# Altium footprint library Connector Footprints.PcbLib: 89 footprints (part 4 of 6)
Each footprint in its own frame and in the unit in brackets; x right, y up, seen from the top. Pads: shape width x height; smd on the part's side, far side on the other; paste and mask are expansions set on the pad; w line width, h text height; cw(c..) or ccw(c..) is an arc to the next point about the centre after c.
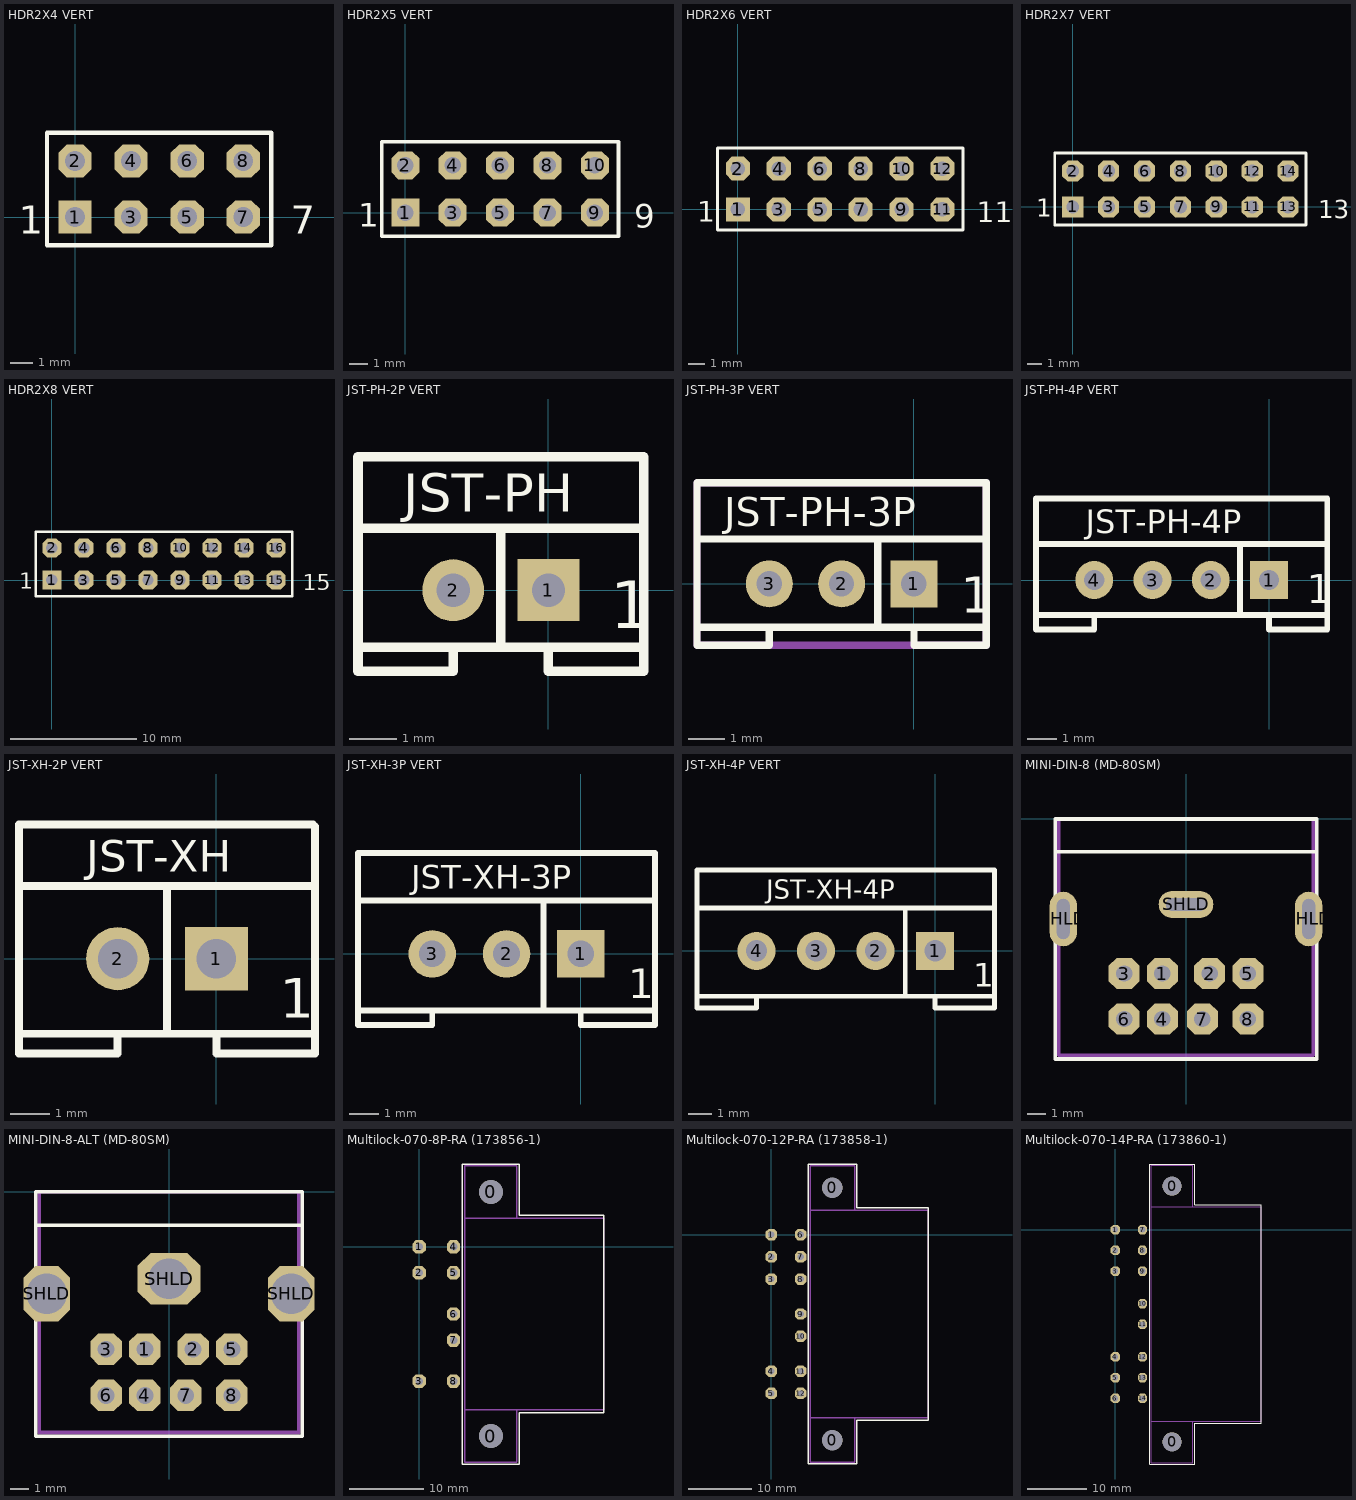
[diagram p3: the footprints below, top view; thin cyan lines are the x and y axes]

## HDR2X4 VERT [mm] "Connector; Header; 2x4 Position, Vertical Mount"
pads (8):
  rect 1.5x1.5 hole 0.9: 1(0,0)
  oct 1.5x1.5 hole 0.9: 2(0,2.54) 3(2.54,0) 4(2.54,2.54) 5(5.08,0) 6(5.08,2.54) 7(7.62,0) 8(7.62,2.54)
Top Overlay:
  lines w0.2: -1.27,-1.27 8.89,-1.27 8.89,3.81 -1.27,3.81 -1.27,-1.27
  text "7" at 9.779,-0.762 h1.27
  text "1" at -2.54,-0.762 h1.27
3D body "61300821121.stp": height 8.77, standoff -2.77, extent -1.255,-1.245 8.905,3.835

## HDR2X5 VERT [mm] "Connector; Header; 2x5 Position, Vertical Mount"
pads (10):
  rect 1.5x1.5 hole 0.9: 1(0,0)
  oct 1.5x1.5 hole 0.9: 2(0,2.54) 3(2.54,0) 4(2.54,2.54) 5(5.08,0) 6(5.08,2.54) 7(7.62,0) 8(7.62,2.54) 9(10.16,0) 10(10.16,2.54)
Top Overlay:
  lines w0.2: -1.27,-1.27 -1.27,3.81 11.43,3.81 11.43,-1.27 -1.27,-1.27
  text "1" at -2.54,-0.762 h1.27
  text "9" at 12.28,-0.8 h1.27
3D body "61301021121.stp": height 8.77, standoff -2.77, extent -1.27,-1.27 11.43,3.81

## HDR2X6 VERT [mm] "Connector; Header; 2x6 Position, Vertical Mount"
pads (12):
  rect 1.5x1.5 hole 0.9: 1(0,0)
  oct 1.5x1.5 hole 0.9: 2(0,2.54) 3(2.54,0) 4(2.54,2.54) 5(5.08,0) 6(5.08,2.54) 7(7.62,0) 8(7.62,2.54) 9(10.16,0) 10(10.16,2.54) 11(12.7,0) 12(12.7,2.54)
Top Overlay:
  lines w0.2: -1.27,-1.27 13.97,-1.27 13.97,3.81 -1.27,3.81 -1.27,-1.27
  text "1" at -2.54,-0.762 h1.27
  text "11" at 14.82,-0.8 h1.27
3D body "61301221121.stp": height 8.77, standoff -2.77, extent -1.265,-1.254 13.975,3.826

## HDR2X7 VERT [mm] "Connector; Header; 2x7 Position, Vertical Mount"
pads (14):
  rect 1.5x1.5 hole 0.9: 1(0,0)
  oct 1.5x1.5 hole 0.9: 2(0,2.54) 3(2.54,0) 4(2.54,2.54) 5(5.08,0) 6(5.08,2.54) 7(7.62,0) 8(7.62,2.54) 9(10.16,0) 10(10.16,2.54) 11(12.7,0) 12(12.7,2.54) 13(15.24,0) 14(15.24,2.54)
Top Overlay:
  lines w0.2: -1.27,-1.27 16.51,-1.27 16.51,3.81 -1.27,3.81 -1.27,-1.27
  text "1" at -2.6,-0.7 h1.27
  text "13" at 17.36,-0.8 h1.27
3D body "61301421121.stp": height 8.77, standoff -2.77, extent -1.27,-1.27 16.51,3.81

## HDR2X8 VERT [mm] "Connector; Header; 2x8 Position, Vertical Mount"
pads (16):
  rect 1.5x1.5 hole 0.9: 1(0,0)
  oct 1.5x1.5 hole 0.9: 2(0,2.54) 3(2.54,0) 4(2.54,2.54) 5(5.08,0) 6(5.08,2.54) 7(7.62,0) 8(7.62,2.54) 9(10.16,0) 10(10.16,2.54) 11(12.7,0) 12(12.7,2.54) 13(15.24,0) 14(15.24,2.54) 15(17.78,0) 16(17.78,2.54)
Top Overlay:
  lines w0.2: -1.27,-1.27 -1.27,3.81 19.05,3.81 19.05,-1.27 -1.27,-1.27
  text "1" at -2.6,-0.7 h1.27
  text "15" at 19.9,-0.8 h1.27
3D body "61301621121.stp": height 8.67, standoff -2.87, extent -1.29,-1.261 19.03,3.819

## JST-PH-2P VERT [mm] "JST-PH Header; 2mm Pitch, 2 Position, Vertical Mount"
height 8
pads (2):
  rect 1.3x1.3 hole 0.7: 1(0,0)
  round 1.3 hole 0.7: 2(-2,0)
Top Overlay:
  lines w0.2: -4,-1.2 2,-1.2 ; -4,1.3 2,1.3 ; -2,-1.2 -2,-1.7 -4,-1.7 -4,2.8 2,2.8 2,-1.7 0,-1.7 0,-1.2 ; -1,-1.2 -1,1.3
  text "1" at 1.3,-0.8 h1
  text "JST-PH" at -3.05,1.65 h0.8
3D body "User Library-JST B2B-PH.step": height 6, standoff -1.91, extent -4,-1.7 2,2.8

## JST-PH-3P VERT [mm] "JST-PH Header; 2mm Pitch, 3 Position, Vertical Mount"
height 8
pads (3):
  rect 1.3x1.3 hole 0.7: 1(0,0)
  round 1.3 hole 0.7: 2(-2,0) 3(-4,0)
Top Overlay:
  lines w0.2: -6,-1.2 -4,-1.2 ; -6,1.24 2,1.24 ; -1,-1.2 -1,1.24 ; 0,-1.2 0,-1.7 2,-1.7 2,2.8 -6,2.8 -6,-1.7 -4,-1.7 -4,-1.2 ; 2,-1.2 -4,-1.2
  text "1" at 1.3,-0.8 h1
  text "JST-PH-3P" at -5.25,1.6 h0.8
Mechanical 13:
  lines w0.2: -6,-1.7 2,-1.7 2,2.8 -6,2.8 -6,-1.7
3D body "User Library-JST B3B-PH.step": height 6, standoff -1.91, extent -6,-1.7 2,2.8

## JST-PH-4P VERT [mm] "JST-PH Header; 2mm Pitch, 4 Position, Vertical Mount"
height 8
pads (4):
  rect 1.3x1.3 hole 0.7: 1(0,0)
  round 1.3 hole 0.7: 2(-2,0) 3(-4,0) 4(-6,0)
Top Overlay:
  lines w0.2: -8,-1.2 2,-1.2 ; -7.9,1.24 2,1.24 ; -6,-1.2 -6,-1.7 -8,-1.7 -8,2.8 2,2.8 2,-1.7 0,-1.7 0,-1.2 ; -1,-1.2 -1,1.24
  text "JST-PH-4P" at -6.3,1.6 h0.8
  text "1" at 1.3,-0.8 h1
3D body "User Library-JST B4B-PH.step": height 6, standoff -1.91, extent -8,-1.7 2,2.8

## JST-XH-2P VERT [mm] "JST-XH Header; 2.5mm Pitch, 2 Position, Vertical Mount"
height 9.8
pads (2):
  rect 1.6x1.6 hole 1: 1(0,0)
  round 1.6 hole 1: 2(-2.5,0)
Top Overlay:
  lines w0.2: -5,1.84 2.4,1.84 ; -5,3.4 -5,-2.4 -2.5,-2.4 -2.5,-1.9 ; -4.95,3.4 2.45,3.4 ; -4.9,-1.9 2.5,-1.9 ; -1.25,-1.825 -1.25,1.8 ; 0,-1.9 0,-2.4 2.5,-2.4 2.5,3.35
  text "1" at 1.6,-1.5 h1
  text "JST-XH" at -3.3,2.2 h0.8
3D body "User Library-JST B2B-XH.step": height 7, standoff -3.3, extent -5,-2.35 2.5,3.35

## JST-XH-3P VERT [mm] "JST-XH Header; 2.5mm Pitch, 3 Position, Vertical Mount"
height 9.8
pads (3):
  rect 1.6x1.6 hole 0.9: 1(0,0)
  round 1.6 hole 0.9: 2(-2.5,0) 3(-5,0)
Top Overlay:
  lines w0.2: -7.5,-1.9 2.45,-1.9 ; -7.4,1.8 2.5,1.8 ; -5,-1.9 -5,-2.4 -7.5,-2.4 -7.5,3.4 2.5,3.4 2.5,-2.4 0,-2.4 0,-1.9 ; -1.25,-1.825 -1.25,1.8
  text "JST-XH-3P" at -5.7,2.2 h0.8
  text "1" at 1.6,-1.5 h1
3D body "User Library-JST B3B-XH.step": height 7, standoff -3.3, extent -7.5,-2.35 2.5,3.35

## JST-XH-4P VERT [mm] "JST-XH Header; 2.5mm Pitch, 4 Position, Vertical Mount"
height 9.8
pads (4):
  rect 1.6x1.6 hole 0.9: 1(0,0)
  round 1.6 hole 0.9: 2(-2.5,0) 3(-5,0) 4(-7.5,0)
Top Overlay:
  lines w0.2: -10,-1.9 2.45,-1.9 ; -10,1.8 2.4,1.8 ; -7.5,-1.9 -7.5,-2.4 -10,-2.4 -10,3.4 2.5,3.4 2.5,-2.4 0,-2.4 0,-1.9 ; -1.25,-1.825 -1.25,1.8
  text "JST-XH-4P" at -7.1,2.2 h0.8
  text "1" at 1.6,-1.5 h1
3D body "User Library-JST B4B-XH.step": height 7, standoff -3.3, extent -10,-2.35 2.5,3.35

## MINI-DIN-8 (MD-80SM) [mm] "CUI Inc, Mini Din Connector, Through Hole, Right Angle"
height 12.8
pads (11):
  oct 1.7x1.7 hole 0.9: 1(-1.3,-8.5) 2(1.3,-8.5) 3(-3.4,-8.5) 4(-1.3,-11) 5(3.4,-8.5) 6(-3.4,-11) 7(0.9,-11) 8(3.4,-11)
  oval 1.5x3 hole 0.7 slot 2.2 at 90 deg: SHLD(-6.75,-5.5) SHLD(6.75,-5.5)
  oval 3x1.5 hole 0.7 slot 2.2 at 0 deg: SHLD(0,-4.7)
Top Overlay:
  lines w0.2: -7.2,-1.8 7.2,-1.8 ; -7.2,-13.2 -7.2,0 7.2,0 7.2,-13.2 -7.2,-13.2
Mechanical 13:
  lines w0.2: -7,-13 -7,0 7,0 7,-13 -7,-13
3D body "md-80sm IQI Connector.stp": height 12.8, standoff -3.5, extent -7.17,-13 7.17,0

## MINI-DIN-8-ALT (MD-80SM) [mm] "CUI Inc, Mini Din Connector, Through Hole, Right Angle"
height 12.8
pads (11):
  oct 1.7x1.7 hole 0.9: 1(-1.3,-8.5) 2(1.3,-8.5) 3(-3.4,-8.5) 4(-1.3,-11) 5(3.4,-8.5) 6(-3.4,-11) 7(0.9,-11) 8(3.4,-11)
  oct 2.5x3 hole 2.2: SHLD(-6.6,-5.5) SHLD(6.6,-5.5)
  oct 3.4x2.8 hole 2.2: SHLD(0,-4.7)
Top Overlay:
  lines w0.2: -7.2,-1.8 7.2,-1.8 ; -7.2,-13.2 -7.2,0 7.2,0 7.2,-13.2 -7.2,-13.2
Mechanical 13:
  lines w0.2: -7,-13 -7,0 7,0 7,-13 -7,-13
3D body "md-80sm IQI Connector.stp": height 12.8, standoff -3.5, extent -7.17,-13 7.17,0

## Multilock-070-8P-RA (173856-1) [mm] "Multilock 070, 8 Pin, 3.5mm Pitch, Right Angle Mount"
height 15.8
pads (10):
  round 3.2 hole 3.2 unplated paste+0: 0(9.6,-25.35) 0(9.6,7.35)
  oct 1.8x1.8 hole 1: 1(0,0) 2(0,-3.5) 3(0,-18) 4(4.6,0) 5(4.6,-3.5) 6(4.6,-9) 7(4.6,-12.5) 8(4.6,-18)
Top Overlay:
  lines w0.2: 5.8,-29.1 5.8,-21.85 5.8,3.85 5.8,11.1 13.4,11.1 13.4,4.2 24.7,4.2 24.7,-22.2 13.4,-22.2 13.4,-29.1 5.8,-29.1
Bottom Overlay:
  text "1" at 0.8,2.7 h1.5
  text "4" at 5.4,3.2 h1.5
  text "8" at 5.4,-20.1 h1.5
  text "3" at 0.8,-20.2 h1.5
Mechanical 13:
  lines w0.2: 13.1,-21.85 13.1,-28.85 6.1,-28.85 6.1,-21.85 ; 13.1,3.85 13.1,10.85 6.1,10.85 6.1,3.85 ; 6.1,-21.85 24.7,-21.85 24.7,3.85 6.1,3.85 ; 6.1,-21.85 6.1,3.85
3D body "c-0173856-01-j3-3d.stp": height 15.9, standoff -3.9, extent -0.3,-28.65 24.62,10.65

## Multilock-070-12P-RA (173858-1) [mm] "Multilock 070, 12 Pin, 3.5mm Pitch, Right Angle Mount"
height 15.8
pads (14):
  round 3.2 hole 3.2 unplated paste+0: 0(9.6,-32.35) 0(9.6,7.35)
  oct 1.8x1.8 hole 1: 1(0,0) 2(0,-3.5) 3(0,-7) 4(0,-21.5) 5(0,-25) 6(4.6,0) 7(4.6,-3.5) 8(4.6,-7) 9(4.6,-12.5) 10(4.6,-16) 11(4.6,-21.5) 12(4.6,-25)
Top Overlay:
  lines w0.2: 5.8,-36.1 13.4,-36.1 13.4,-29.2 24.7,-29.2 24.7,4.2 13.4,4.2 13.4,11.1 5.8,11.1 5.8,3.85 5.8,-28.85 5.8,-36.1
Bottom Overlay:
  text "5" at 0.8,-27.2 h1.5
  text "12" at 5.4,-27.1 h1.5
  text "6" at 5.4,3.2 h1.5
  text "1" at 0.8,2.7 h1.5
Mechanical 13:
  lines w0.2: 13.1,-28.85 13.1,-35.85 6.1,-35.85 6.1,-28.85 ; 13.1,3.85 13.1,10.85 6.1,10.85 6.1,3.85 ; 6.1,-28.85 6.1,3.85 ; 6.1,-28.85 24.7,-28.85 24.7,3.85 6.1,3.85
3D body "c-173858-1-h2-3d.stp": height 15.9, standoff -3.9, extent -0.3,-35.65 24.62,10.65

## Multilock-070-14P-RA (173860-1) [mm] "Multilock 070, 14 Pin, 3.5mm Pitch, Right Angle Mount"
height 15.8
pads (16):
  round 3.2 hole 3.2 unplated paste+0: 0(9.6,-35.85) 0(9.6,7.35)
  oct 1.6x1.6 hole 1: 1(0,0) 2(0,-3.5) 3(0,-7) 4(0,-21.5) 5(0,-25) 6(0,-28.5) 7(4.6,0) 8(4.6,-3.5) 9(4.6,-7) 10(4.6,-12.5) 11(4.6,-16) 12(4.6,-21.5) 13(4.6,-25) 14(4.6,-28.5)
Top Overlay:
  lines w0.2: 5.8,-39.6 5.8,-32.35 5.8,3.85 5.8,11.1 13.4,11.1 13.4,4.2 24.7,4.2 24.7,-32.7 13.4,-32.7 13.4,-39.6 5.8,-39.6
Bottom Overlay:
  text "1" at 0.8,2.7 h1.5
  text "7" at 5.4,3.2 h1.5
  text "14" at 5.4,-30.6 h1.5
  text "6" at 0.8,-30.7 h1.5
Mechanical 13:
  lines w0.2: 13.1,-32.35 13.1,-39.35 6.1,-39.35 6.1,-32.35 ; 13.1,3.85 13.1,10.85 6.1,10.85 6.1,3.85 ; 6.1,-32.35 24.7,-32.35 24.7,3.85 6.1,3.85 ; 6.1,-32.35 6.1,3.85
3D body "c-173860-1-j1-3d.stp": height 15.85, standoff -3.95, extent -0.32,-39.1 24.6,10.7